# EAGLE library part LAN8720A (library ICs)
Ethernet Controller, 100 Mbps, IEEE 802.3, IEEE 802.3u, 3 V, 3.6 V, QFN, 24 Pins
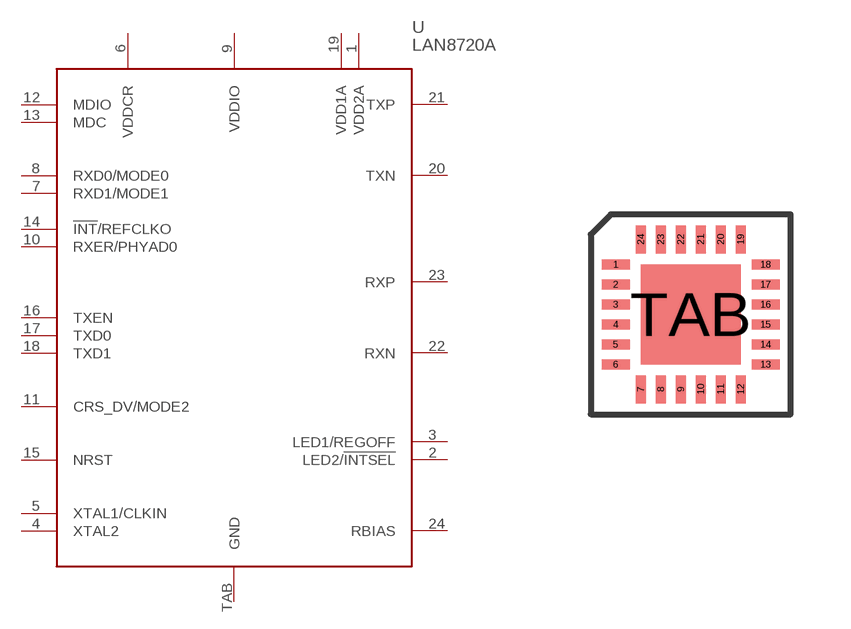
[diagram p150: symbol with the pads of QFN24_LAN8720A; footprint QFN24_LAN8720A]

Designator prefix U

## LAN8720A (FARNELL: 2292577; PRICE_PER: 1.08; VALUE: LAN8720A)  [QFN24_LAN8720A]
1  VDD2A
2  LED2/!INTSEL
3  LED1/REGOFF
4  XTAL2
5  XTAL1/CLKIN
6  VDDCR
7  RXD1/MODE1
8  RXD0/MODE0
9  VDDIO
10  RXER/PHYAD0
11  CRS_DV/MODE2
12  MDIO
13  MDC
14  !INT!/REFCLKO
15  NRST
16  TXEN
17  TXD0
18  TXD1
19  VDD1A
20  TXN
21  TXP
22  RXN
23  RXP
24  RBIAS
TAB  GND

## Footprint QFN24_LAN8720A (pad centres in mm)
smd 0.7 x 0.25: 1 -1.875,1.25; 2 -1.875,0.75; 3 -1.875,0.25; 4 -1.875,-0.25; 5 -1.875,-0.75; 6 -1.875,-1.25; 13 1.875,-1.25; 14 1.875,-0.75; 15 1.875,-0.25; 16 1.875,0.25; 17 1.875,0.75; 18 1.875,1.25
smd 0.25 x 0.7: 7 -1.25,-1.875; 8 -0.75,-1.875; 9 -0.25,-1.875; 10 0.25,-1.875; 11 0.75,-1.875; 12 1.25,-1.875; 19 1.25,1.875; 20 0.75,1.875; 21 0.25,1.875; 22 -0.25,1.875; 23 -0.75,1.875; 24 -1.25,1.875
smd 2.5 x 2.5: TAB 0,0